# EAGLE library part WE-RJ45-LAN-10/100/1000BT-7499111446 (library PowerMagnetics)
Order Code 7499111446 Design THT xBase-T 10/100/1000 Base-T Ports 1x1 Application Standard Tab Position DOWN LED (Left-Right) GREEN/YELLOW-GREEN/YELLOW EMI Fingers yes <http://katalog.we-online.de/media/images/eisos/UtLAN_RJ45_pf2.jpg> Details see: http://katalog.we-online.de/en/pbs/WE-LAN_RJ45/7499111446? Updated by Dan Xu 2014-07-10 2014 (C) Würth Elektronik
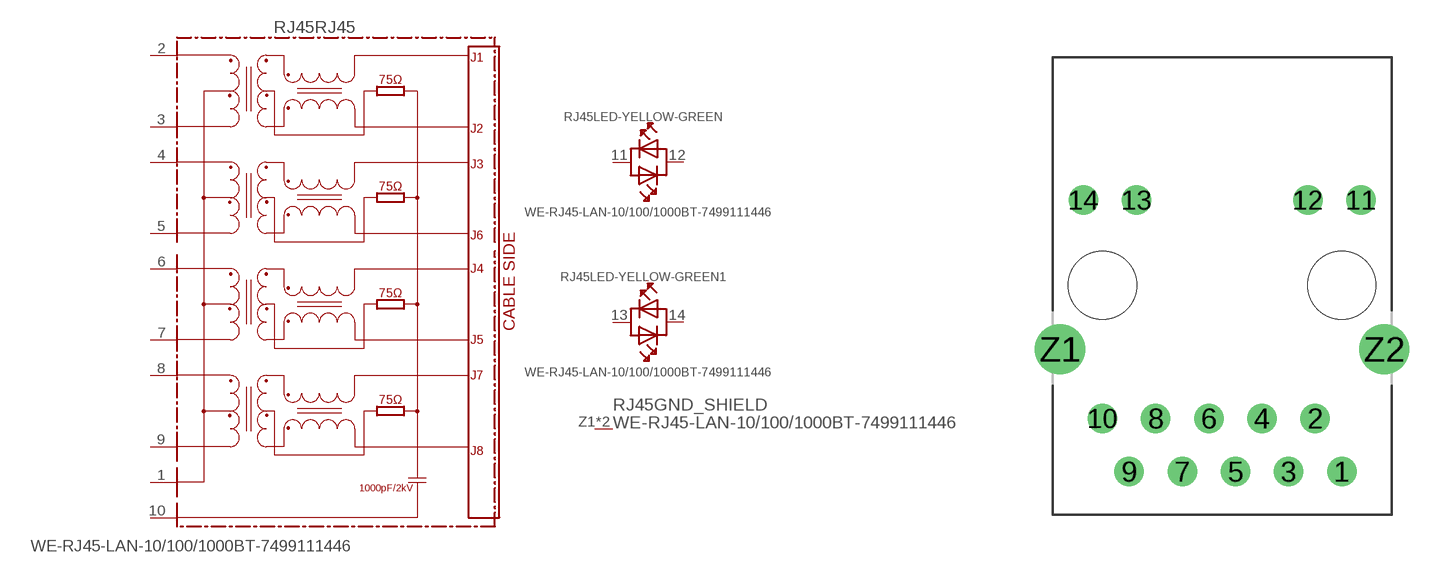
[diagram p116: symbol with the pads of 7499111446; footprint 7499111446]

Designator prefix RJ45; gates RJ45=7499111446 LED-YELLOW-GREEN=LED-DUAL-1 LED-YELLOW-GREEN1=LED-DUAL-1 GND_SHIELD=GND_PIN

## WE-RJ45-LAN-10/100/1000BT-7499111446 (COMPANY-URL: http://www.we-online.de; CREATED-BY: Christin Zierenner; CREATED-DATE: AUG 2012; DATASHEET-URL: http://katalog.we-online.de/kataloge/eisos/media/pdf/7499111446.pdf; MANUFACTURER: Würth Elektronik eiSos GmbH)  [7499111446]
1  RJ45:1
2  RJ45:2
3  RJ45:3
4  RJ45:4
5  RJ45:5
6  RJ45:6
7  RJ45:7
8  RJ45:8
9  RJ45:9
10  RJ45:10  pwr
11  LED-YELLOW-GREEN:AK1
12  LED-YELLOW-GREEN:AK2
13  LED-YELLOW-GREEN1:AK1
14  LED-YELLOW-GREEN1:AK2
Z1  GND_SHIELD:P$1  pwr
Z2  GND_SHIELD:P$1  pwr

## Footprint 7499111446 (pad centres in mm)
MAX HEIGHT=13.95mm PORTS----1X1 LED --YES
drill 0.9: 1 5.715,-8.89; 2 4.445,-6.35; 3 3.175,-8.89; 4 1.905,-6.35; 5 0.635,-8.89; 6 -0.635,-6.35; 7 -1.905,-8.89; 8 -3.175,-6.35; 9 -4.445,-8.89; 10 -5.715,-6.35; 11 6.63,4.08; 12 4.09,4.08; 13 -4.09,4.08; 14 -6.63,4.08
drill 1.6: Z1 -7.745,-3.05; Z2 7.745,-3.05
hole 3.25 at 5.715,0
hole 3.25 at -5.715,0